# Altium schematic symbol library DMP3098LQ.Schlib: 1 symbol
Pins are listed as number, name and electrical type; pins without a type are passive.

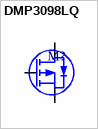
[diagram p0: symbol DMP3098LQ]

## DMP3098LQ
designator M?
30V 3.8A P-Channel
pins: 1 G, 2 S, 3 D